# Altium schematic symbol library Elreg_OCXO_Test_Board.SchLib: 23 symbols
Pins are listed as number, name and electrical type; pins without a type are passive.

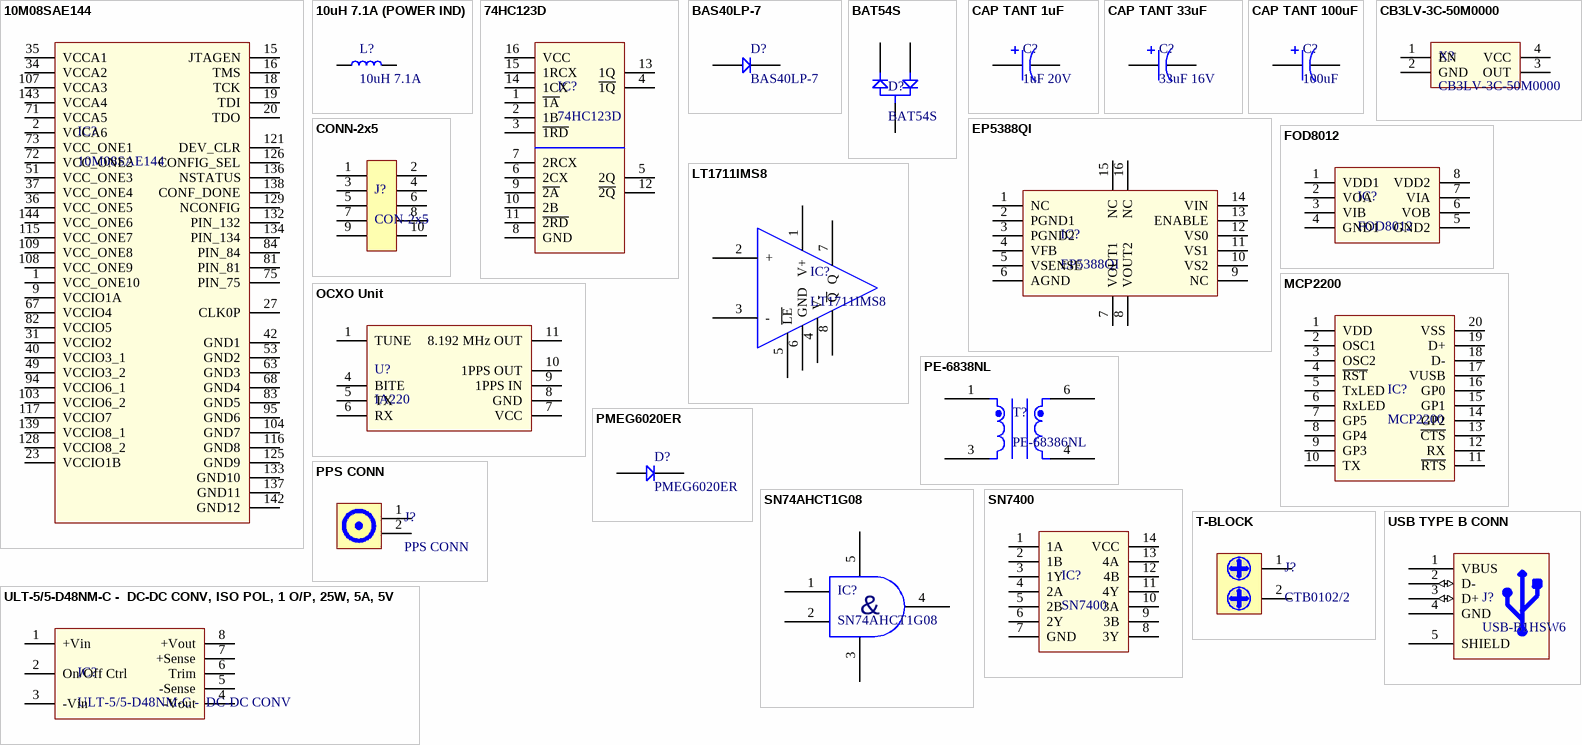
[diagram p0: symbols 10M08SAE144 to USB TYPE B CONN]

## 10M08SAE144
designator IC?
Manufacturer Part Number: 10M08SAE144C8G; Manufacturer: Intel; Supplier 1: Digi-Key; Supplier Part Number 1: 544-3132-ND
footprint SQFP50P2200X2200X200-144N (SQFP, 144-Leads, Body 20.00x20.00mm, Pitch 0.50mm, IPC Medium Density)
pins: 1 VCC_ONE10, 2 VCCA6, 9 VCCIO1A, 15 JTAGEN, 16 TMS, 18 TCK, 19 TDI, 20 TDO, 23 VCCIO1B, 27 CLK0P, 31 VCCIO2, 34 VCCA2, 35 VCCA1, 36 VCC_ONE5, 37 VCC_ONE4, 40 VCCIO3_1, 42 GND1, 49 VCCIO3_2, 51 VCC_ONE3, 53 GND2, 63 GND3, 67 VCCIO4, 68 GND4, 71 VCCA5, 72 VCC_ONE2, 73 VCC_ONE1, 75 PIN_75, 81 PIN_81, 82 VCCIO5, 83 GND5, 84 PIN_84, 94 VCCIO6_1, 95 GND6, 103 VCCIO6_2, 104 GND7, 107 VCCA3, 108 VCC_ONE9, 109 VCC_ONE8, 115 VCC_ONE7, 116 GND8, 117 VCCIO7, 121 DEV_CLR, 125 GND9, 126 CONFIG_SEL, 128 VCCIO8_2, 129 NCONFIG, 132 PIN_132, 133 GND10, 134 PIN_134, 136 NSTATUS, 137 GND11, 138 CONF_DONE, 139 VCCIO8_1, 142 GND12, 143 VCCA4, 144 VCC_ONE6

## 10uH 7.1A (POWER IND)
designator L?, comment 10uH 7.1A
Manufacturer: Wurth Elektronik; Manufacturer Part Number: 7447709100; Supplier 1: Farnell; Supplier Part Number 1: 1635942
footprint INDP128128X100N (Precision Wire Wound Inductor, 2-Leads, Body 12.80x12.80mm, IPC Medium Density)
pins: 1 ~{2Q}, 2 ~{2Q}

## 74HC123D
designator IC?
Manufacturer: Nexperia USA Inc.; Manufacturer Part Number: 74HC123D,653; Supplier 1: Digi-Key; Supplier Part Number 1: 1727-2778-2-ND
footprint SOIC127P600X205-16N (SOIC, 16-Leads, Body 10.05x3.90mm, Pitch 1.27mm, IPC Medium Density)
pins: 1 ~{1A}, 2 1B, 3 ~{1RD}, 4 ~{1Q}, 5 2Q, 6 2CX, 7 2RCX, 8 GND, 9 ~{2A}, 10 2B, 11 ~{2RD}, 12 ~{2Q}, 13 1Q, 14 1CX, 15 1RCX, 16 VCC

## BAS40LP-7
designator D?
Manufacturer: Diodes Incorporated; Supplier 1: Digi-Key; Supplier Part Number 1: BAS40LPDITR-ND; Manufacturer Part Number: BAS40LP-7
footprint DFN65P97X45-2N (DFN, 2-Leads, Body 0.58x0.97mm, Pitch 0.65mm, IPC Medium Density)
pins: 1 Q, 2 Q

## BAT54S
designator D?
Manufacturer: Taiwan Semiconductor; Supplier 1: Farnell; Supplier Part Number 1: 2677691; Manufacturer Part Number: BAT54S
footprint SOT95P248X110-3N (SOT23, 3-Leads, Body 2.95x2.48mm, Pitch 0.95mm, IPC Medium Density)
pins: 1 Q, 2 Q, 3 Q

## CAP TANT 1uF
designator C?, comment 1uF 20V
T498B105K035ATE4K4; Manufacturer: AVX Corporation; Manufacturer Part Number: TPSA105M020R3000; Supplier 1: Digi-Key; Supplier Part Number 1: 478-9030-1-ND
footprint CAP 1206
pins: 1 ~{2Q}, 2 ~{2Q}

## CAP TANT 33uF
designator C?, comment 33uF 16V
T494B336K016AT; Manufacturer: AVX; Manufacturer Part Number: TPSB336K016R0500; Supplier 1: Newark; Supplier Part Number 1: 96Y8039
footprint cap 1210
pins: 1 ~{2Q}, 2 ~{2Q}

## CAP TANT 100uF
designator C?, comment 100uF
Manufacturer: AVX; Manufacturer Part Number: TPSC107K010T0100; Supplier 1: Digi-Key; Supplier Part Number 1: 478-11488-1-ND
footprint CAP TANT 2312
pins: 1 ~{2Q}, 2 ~{2Q}

## CB3LV-3C-50M0000
designator X?
Manufacturer: CTS-Frequency Controls; Supplier 1: Digi-Key; Supplier Part Number 1: CTX283LVCT-ND; Manufacturer Part Number: CB3LV-3C-50M0000
footprint OSC
pins: 1 EN, 2 GND, 3 OUT, 4 VCC

## CONN-2x5
designator J?, comment CON-2x5
Manufacturer: Harwin Inc.; Manufacturer Part Number: M20-9970546
footprint PIN-2X5-2.54-1.0 (Pin Header)
pins: 1 VCC, 2 VCC, 3 VCC, 4 VCC, 5 VCC, 6 VCC, 7 VCC, 8 VCC, 9 VCC, 10 VCC

## EP5388QI
designator IC?
Manufacturer: Intel; Supplier 1: Digi-Key; Supplier Part Number 1: 544-2875-6-ND; Manufacturer Part Number: EP5388QI
footprint PQFN50P320X320X100_HS-17N (PQFN, 16-Leads, Body 3.20x3.20mm, Pitch 0.50mm, Thermal Pad 1.60x1.60mm, IPC Medium Density)
pins: 1 NC, 2 PGND1, 3 PGND2, 4 VFB, 5 VSENSE, 6 AGND, 7 VOUT1, 8 VOUT2, 9 NC, 10 VS2, 11 VS1, 12 VS0, 13 ENABLE, 14 VIN, 15 NC, 16 NC

## FOD8012
designator IC?
Manufacturer: ON Semiconductor; Manufacturer Part Number: FOD8012A; Supplier 1: Digi-Key; Supplier Part Number 1: FOD8012A-ND
footprint SOP127P590X363-8N (SOP, 8-Leads, Body 4.88x3.91mm, Pitch 1.27mm, IPC Medium Density)
pins: 1 VDD1, 2 VOA, 3 VIB, 4 GND1, 5 GND2, 6 VOB, 7 VIA, 8 VDD2

## LT1711IMS8
designator IC?
Manufacturer: Linear Technology; Manufacturer Part Number: LT1711IMS8#PBF; Supplier 1: Farnell; Supplier Part Number 1: 2254822; Supplier 2: Digi-Key; Supplier Part Number 2: LT1711IMS8#PBF-ND
footprint TSOP65P490X110-8N (TSOP, 8-Leads, Body 3.00x3.00mm, Pitch 0.65mm, IPC Medium Density)
pins: 1 V+, 2 +, 3 -, 4 V-, 5 ~{LE}, 6 GND, 7 Q, 8 ~{Q}

## MCP2200
designator IC?
Manufacturer: Michrochip Technology; Manufacturer Part Number: MCP2200-I/SO; Supplier 1: TME; Supplier Part Number 1: MCP2200-I/SO
footprint SOIC127P1030X205-20N (SOIC, 20-Leads, Body 12.80x7.50mm, Pitch 1.27mm, IPC Medium Density)
pins: 1 VDD, 2 OSC1, 3 OSC2, 4 ~{RST}, 5 TxLED, 6 RxLED, 7 GP5, 8 GP4, 9 GP3, 10 TX, 11 ~{RTS}, 12 RX, 13 ~{CTS}, 14 GP2, 15 GP1, 16 GP0, 17 VUSB, 18 D-, 19 D+, 20 VSS

## OCXO Unit
designator U?, comment IA220
Manufacturer: inApril; Manufacturer Part Number: IA220
footprint IA2200
pins: 1 TUNE, 4 BITE, 5 TX, 6 RX, 7 VCC, 8 GND, 9 1PPS IN, 10 1PPS OUT, 11 8.192 MHz OUT

## PE-6838NL
designator T?, comment PE-68386NL
Manufacturer: Pulse Electronics Power; Supplier 1: Digi-Key; Supplier Part Number 1: 553-1561-5-ND; Manufacturer Part Number: PE-68386NL
footprint PE-68386NL
pins: 1 0, 3 1, 4 2, 6 3

## PMEG6020ER
designator D?
Manufacturer: Nexperia USA Inc.; Manufacturer Part Number: PMEG6020ER,115; Supplier 1: Digi-Key; Supplier Part Number 1: 1727-5217-2-ND
footprint SODFL350X110-2N (SODFL, 2-Leads, Body 1.70x3.50mm, IPC Medium Density)
pins: 1 ~{2Q}, 2 ~{2Q}

## PPS CONN
designator J?
13-53 TGN 50R; Manufacturer: MULTICOMP; Supplier 1: Farnell; Supplier Part Number 1: 1169739; Manufacturer Part Number: 13-53 TGN 50R
footprint PPS CONN
pins: 1 +Vout, 2 +Vout

## SN74AHCT1G08
designator IC?
Manufacturer: Texas Instruments; Manufacturer Part Number: SN74AHCT1G08DBVR; Supplier 1: Farnell; Supplier Part Number 1: 1105924
footprint SOT65P210X110-5N (SOT23, 5-Leads, Body 2.00x2.10mm, Pitch 0.65mm, IPC Medium Density)
pins: 1 Q, 2 Q, 3 Q, 4 Q, 5 Q
text: &

## SN7400
designator IC?
Manufacturer: Texas Instruments; Manufacturer Part Number: SN7400D; Supplier 1: Farnell; Supplier Part Number 1: 2342458
footprint TSOP127P780X110-14N (TSOP, 14-Leads, Body 10.20x5.30mm, Pitch 1.27mm, IPC Medium Density)
pins: 1 1A, 2 1B, 3 1Y, 4 2A, 5 2B, 6 2Y, 7 GND, 8 3Y, 9 3B, 10 3A, 11 4Y, 12 4B, 13 4A, 14 VCC

## T-BLOCK
designator J?, comment CTB0102/2
Manufacturer: CAMDENBOSS; Supplier 1: Farnell; Supplier Part Number 1: 2493614; Manufacturer Part Number: CTB0102/2
footprint TBLOCK
pins: 1 +Vout, 2 +Vout

## ULT-5/5-D48NM-C -  DC-DC CONV, ISO POL, 1 O/P, 25W, 5A, 5V
designator IC?, comment ULT-5/5-D48NM-C -  DC-DC CONV
ULT-5/5-D48NM-C -  DC-DC CONV, ISO POL, 1 O/P, 25W, 5A, 5V; Manufacturer: Murata Power Solutions; Supplier 1: Farnell; Supplier Part Number 1: 2081785; Manufacturer Part Number: ULT-5/5-D48NM-C
footprint ULT-5/5-D48NM-C
pins: 1 +Vin, 2 On/Off Ctrl, 3 -Vin, 4 -Vout, 5 -Sense, 6 Trim, 7 +Sense, 8 +Vout

## USB TYPE B CONN
designator J?, comment USB-B1HSW6
CONN USB TYPE B R/A WHITE; Manufacturer: On Shore Technology Inc.; Connector Type: USB - B; Number of Contacts: 4; Gender: Receptacle; Number of Ports: 1; Current Rating: 1A; Voltage - Rated: 30VAC; Shielding: Unshielded; Material Flammability Rating: UL94 V-0; Supplier 1: Digi-Key; Manufacturer Part Number: USB-B1HSW6; RoHS: RoHS Compliant; Category: Connectors, Interconnects; Stock 1: 7387; Pricing 1: 1=0.58, 10=0.546, 25=0.4916, 50=0.4368, 100=0.4186, 250=0.3822, 500=0.364, 1000=0.3003, 2500=0.273 (USD); Packaging: Tray; Part Status: Active; Specifications: -; Mounting Type: Through Hole, Right Angle; Mounting Feature: Horizontal; Termination: Solder; Features: Board Lock; Ingress Protection: -; Operating Temperature: 0°C ~ 85°C; Mating Cycles: -; Contact Finish: Gold; Shell/Shielding Material: Brass; Insulation Color: White; ComponentLink1URL: http://www.on-shore.com/wp-content/uploads/2015/09/usb-b1hsxx.pdf; ComponentLink1Description: http://www.on-shore.com/wp-content/uploads/2015/09/usb-b1hsxx.pdf; Supplier Part Number 1: ED2982-ND
footprint USB B TYPE CONN
pins: 1 VBUS (power), 2 D- (io), 3 D+ (io), 4 GND (power), 5 SHIELD (power)